# Altium footprint library ADCSFootprints.PcbLib: 63 footprints (part 2 of 4)
Each footprint in its own frame and in the unit in brackets; x right, y up, seen from the top. Pads: shape width x height; smd on the part's side, far side on the other; paste and mask are expansions set on the pad; w line width, h text height; cw(c..) or ccw(c..) is an arc to the next point about the centre after c.
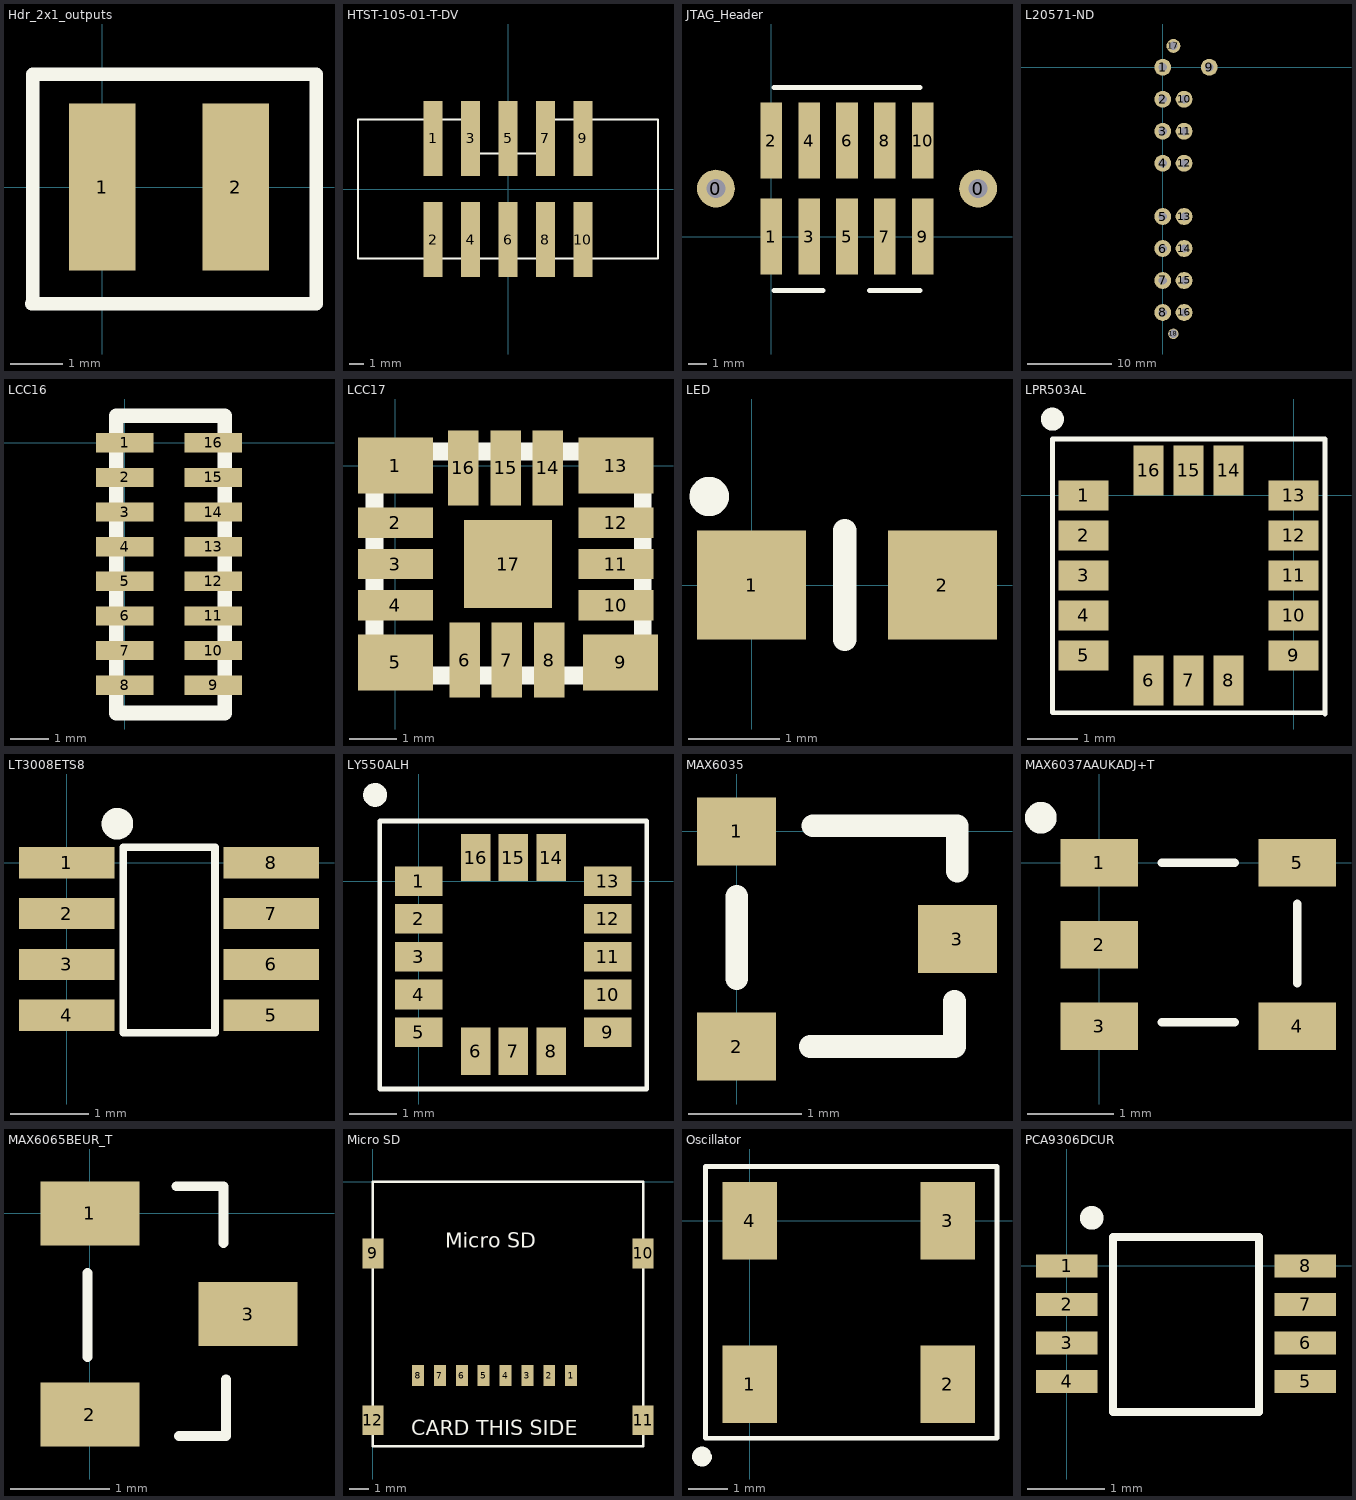
[diagram p1: the footprints below, top view; thin cyan lines are the x and y axes]

## Hdr_2x1_outputs [mm]
pads (2):
  rect 1.27x3.18 smd: 1(0,0) 2(2.54,0)
Top Overlay:
  lines w0.254: -1.35,-2.225 4.075,-2.225 4.075,2.15 -1.325,2.15 -1.325,-2.175

## HTST-105-01-T-DV [mil] "Double Row Shrouded Vertical Header"
height 366.14
pads (10):
  rect 50x200 smd: 1(-200,135) 2(-200,-135) 3(-100,135) 4(-100,-135) 5(0,135) 6(0,-135) 7(100,135) 8(100,-135) 9(200,135) 10(200,-135)
Top Overlay:
  lines w5: -400,-185 -400,0 -400,185 -100,185 -100,95 100,95 100,185 400,185 400,0 400,-185 0,-185 -400,-185

## JTAG_Header [mm]
pads (12):
  round 2 hole 1: 0(-2.925,2.535) 0(10.925,2.535)
  rrect0% 1.15x4 smd: 1(0,0) 2(0,5.07) 3(2,0) 4(2,5.07) 5(4,0) 6(4,5.07) 7(6,0) 8(6,5.07) 9(8,0) 10(8,5.07)
Top Overlay:
  lines w0.254: 0.15,-2.85 2.75,-2.85 ; 0.15,7.875 7.85,7.875 ; 5.175,-2.85 7.875,-2.85

## L20571-ND [mm]
pads (18):
  round 2 hole 1: 1(0,0) 2(0,-3.81) 3(0,-7.62) 4(0,-11.43) 5(0,-17.78) 6(0,-21.59) 7(0,-25.4) 8(0,-29.21) 9(5.54,0) 10(2.54,-3.81) 11(2.54,-7.62) 12(2.54,-11.43) 13(2.54,-17.78) 14(2.54,-21.59) 15(2.54,-25.4) 16(2.54,-29.21)
  round 1.65 hole 1: 17(1.27,2.54)
  round 1.24 hole 1: 18(1.27,-31.75)

## LCC16 [mm] "for CRM200"
pads (16):
  rrect0% 1.5x0.5 smd: 1(0,0) 2(0,-0.9) 3(0,-1.8) 4(0,-2.7) 5(0,-3.6) 6(0,-4.5) 7(0,-5.4) 8(0,-6.3) 9(2.3,-6.3) 10(2.3,-5.4) 11(2.3,-4.5) 12(2.3,-3.6) 13(2.3,-2.7) 14(2.3,-1.8) 15(2.3,-0.9) 16(2.3,0)
Top Overlay:
  lines w0.381: -0.225,-7.025 -0.225,0.7 2.6,0.7 2.6,-7.025 -0.225,-7.025

## LCC17 [mm]
pads (17):
  rrect0% 1.6x1.2 smd: 1(0,0) 5(0,-4.2) 9(4.8,-4.2) 13(4.7,0)
  rrect0% 1.6x0.65 smd: 2(0,-1.225) 3(0,-2.1) 4(0,-2.975) 10(4.7,-2.975) 11(4.7,-2.1) 12(4.7,-1.225)
  rrect0% 0.65x1.6 smd: 6(1.475,-4.15) 7(2.375,-4.15) 8(3.275,-4.15) 14(3.25,-0.05) 15(2.35,-0.05) 16(1.45,-0.05)
  rrect0% 1.87x1.87 smd: 17(2.4,-2.1)
Top Overlay:
  lines w0.381: -0.45,-4.48 -0.45,0.3 5.275,0.3 5.275,-4.475 -0.45,-4.475

## LED [mm]
pads (2):
  rect 1.2x1.2 smd: 1(0,0) 2(2.1,0)
Top Overlay:
  circle w0.254: c-0.465,0.975 r0.09
  lines w0.254: 1.025,-0.6 1.025,0.6

## LPR503AL [mm]
pads (16):
  rrect0% 1x0.6 smd: 1(-4.2,0) 2(-4.2,-0.8) 3(-4.2,-1.6) 4(-4.2,-2.4) 5(-4.2,-3.2) 9(0,-3.2) 10(0,-2.4) 11(0,-1.6) 12(0,-0.8) 13(0,0)
  rrect0% 0.6x1 smd: 6(-2.9,-3.7) 7(-2.1,-3.7) 8(-1.3,-3.7) 14(-1.3,0.5) 15(-2.1,0.5) 16(-2.9,0.5)
Top Overlay:
  circle w0.254: c-4.825,1.525 r0.103
  lines w0.1: 0.625,-4.375 0.625,1.1 ; 0.625,-4.35 -4.825,-4.35 -4.825,1.125 0.625,1.125

## LT3008ETS8 [mm]
pads (8):
  rrect0% 1.22x0.4 smd: 1(0,0) 2(0,-0.65) 3(0,-1.3) 4(0,-1.95) 5(2.62,-1.95) 6(2.62,-1.3) 7(2.62,-0.65) 8(2.62,0)
Top Overlay:
  circle w0.254: c0.65,0.5 r0.075
  lines w0.1: 0.725,-2.175 1.9,-2.175 1.9,0.2 0.725,0.2 0.725,-2.175

## LY550ALH [mm]
pads (16):
  rrect0% 1x0.625 smd: 1(0,0) 2(0,-0.8) 3(0,-1.6) 4(0,-2.4) 5(0,-3.2) 9(4,-3.2) 10(4,-2.4) 11(4,-1.6) 12(4,-0.8) 13(4,0)
  rrect0% 0.625x1 smd: 6(1.2,-3.6) 7(2,-3.6) 8(2.8,-3.6) 14(2.8,0.5) 15(2,0.5) 16(1.2,0.5)
Top Overlay:
  circle w0.254: c-0.925,1.825 r0.125
  lines w0.1: -0.825,-4.4 4.825,-4.4 4.825,1.275 -0.825,1.275 -0.825,-4.4

## MAX6035 [mm]
pads (3):
  rrect0% 0.7x0.6 smd: 1(0,0) 2(0,-1.9) 3(1.95,-0.95)
Top Overlay:
  lines w0.2: 0,-1.3 0,-0.575 ; 0.65,-1.9 1.925,-1.9 1.925,-1.5 ; 0.675,0.05 1.95,0.05 1.95,-0.35

## MAX6037AAUKADJ+T [mm]
pads (5):
  rrect0% 0.9x0.55 smd: 1(0,0) 2(0,-0.95) 3(0,-1.9) 4(2.3,-1.9) 5(2.3,0)
Top Overlay:
  circle w0.254: c-0.681,0.525 r0.056
  lines w0.1: 0.725,-1.85 1.575,-1.85 ; 0.725,0 1.575,0 ; 2.3,-1.4 2.3,-0.475

## MAX6065BEUR_T [mm]
pads (3):
  rrect0% 1x0.65 smd: 1(0,0) 2(0,-2.032) 3(1.6,-1.016)
Top Overlay:
  lines w0.1: -0.025,-1.45 -0.025,-0.6 ; 0.875,0.275 1.35,0.275 1.35,-0.3 ; 0.9,-2.25 1.375,-2.25 1.375,-1.675

## Micro SD [mm] "Micro SD 101-00303-68-1-ND"
height 1.8
pads (12):
  rect 0.6x1.05 smd: 1(9.975,-9.75) 2(8.875,-9.75) 3(7.775,-9.75) 4(6.675,-9.75) 5(5.575,-9.75) 6(4.475,-9.75) 7(3.375,-9.75) 8(2.275,-9.75)
  rect 1.05x1.5 smd: 9(0,-3.6) 10(13.6,-3.6) 11(13.6,-12) 12(0,-12)
Top Overlay:
  lines w0.125: 0,-13.3 0,0 13.6,0 13.6,-13.3 0,-13.3
  text "Micro SD" at 3.65,-3.325 h0.76
  text "CARD THIS SIDE" at 1.925,-12.75 h0.76

## Oscillator [mm] "ECS-UPO-5X7-ND"
pads (4):
  rect 1.4x2 smd: 1(0,-4.2) 2(5.08,-4.2) 3(5.08,0) 4(0,0)
Top Overlay:
  lines w0.127: -1.143,-5.588 -1.143,1.397 6.35,1.397 6.35,-5.588 -1.143,-5.588
  lines w0.254: -1.143,-5.969 ccw(c-1.233,-6.059) -1.106,-6.059

## PCA9306DCUR [mm]
pads (8):
  rrect0% 0.8x0.3 smd: 1(0,0) 2(0,-0.5) 3(0,-1) 4(0,-1.5) 5(3.1,-1.5) 6(3.1,-1) 7(3.1,-0.5) 8(3.1,0)
Top Overlay:
  circle w0.254: c0.325,0.625 r0.025
  lines w0.1: 0.6,-1.9 0.6,0.375 2.5,0.375 2.5,-1.9 0.6,-1.9